# EAGLE library part GP2Y1014AU0F (library sharp-dust-sensor)
GP2Y1014AU0F -Optical Dust Sensor Technical Specifications: VCC: 4.5-5.5V Operating Temperature: -20°C to 65°C Digikey: 1855-1013-ND Mouser: 852-GP2Y1014AU0F
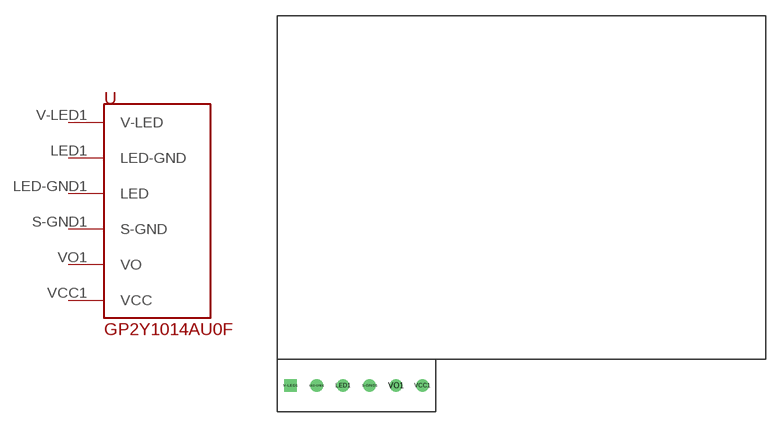
[diagram p0: symbol with the pads of GP2Y1014AU0F; footprint GP2Y1014AU0F]

Designator prefix -

## GP2Y1014AU0F  [GP2Y1014AU0F]
LED1  LED-GND
LED-GND1  LED
S-GND1  S-GND
V-LED1  V-LED
VCC1  VCC
VO1  VO

## Footprint GP2Y1014AU0F (pad centres in mm)
drill 0.7: LED1 -17.78,-19.05; LED-GND1 -20.32,-19.05; S-GND1 -15.24,-19.05; VCC1 -10.16,-19.05; VO1 -12.7,-19.05
drill 0.7 square: V-LED1 -22.86,-19.05